# Altium integrated library NodeMCU.IntLib: 1 symbol
Pins are listed as number, name and electrical type; pins without a type are passive.

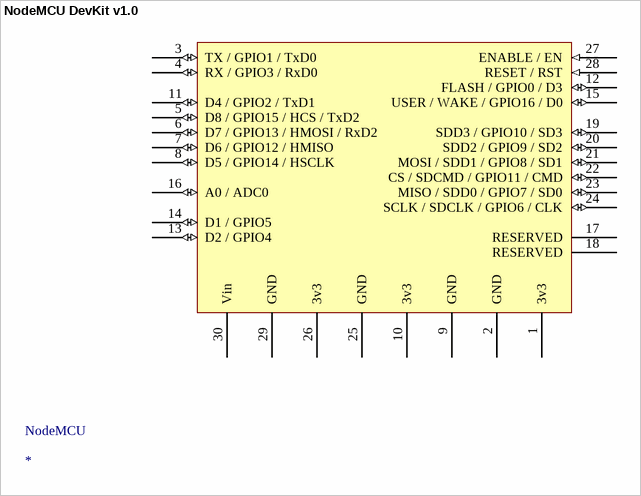
[diagram p0: symbol NodeMCU DevKit v1.0]

## NodeMCU DevKit v1.0
designator NodeMCU
footprint NodeMCU DevKit v1.0 - Inside Labels
footprint NodeMCU DevKit v1.0 - No Labels
footprint NodeMCU DevKit v1.0 - Outside Labels
pins: 1 3v3 (power), 2 GND (power), 3 TX / GPIO1 / TxD0 (io), 4 RX / GPIO3 / RxD0 (io), 5 D8 / GPIO15 / HCS / TxD2 (io), 6 D7 / GPIO13 / HMOSI / RxD2 (io), 7 D6 / GPIO12 / HMISO (io), 8 D5 / GPIO14 / HSCLK (io), 9 GND (power), 10 3v3 (power), 11 D4 / GPIO2 / TxD1 (io), 12 FLASH / GPIO0 / D3 (io), 13 D2 / GPIO4 (io), 14 D1 / GPIO5 (io), 15 USER / WAKE / GPIO16 / D0 (io), 16 A0 / ADC0 (io), 17 RESERVED, 18 RESERVED, 19 SDD3 / GPIO10 / SD3 (io), 20 SDD2 / GPIO9 / SD2 (io), 21 MOSI / SDD1 / GPIO8 / SD1 (io), 22 CS / SDCMD / GPIO11 / CMD (io), 23 MISO / SDD0 / GPIO7 / SD0 (io), 24 SCLK / SDCLK / GPIO6 / CLK (io), 25 GND (power), 26 3v3 (power), 27 ENABLE / EN (in), 28 RESET / RST (in), 29 GND, 30 Vin